# EAGLE library part USBSRL (library MouseLib)
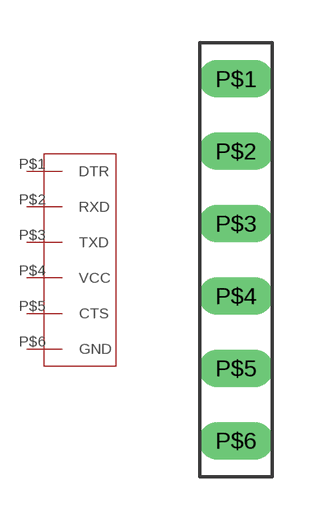
[diagram p11: symbol with the pads of 6PINS; footprint 6PINS]

Designator prefix -

## USBSRL  [6PINS]
P$1  DTR
P$2  RXD
P$3  TXD
P$4  VCC
P$5  CTS
P$6  GND

## Footprint 6PINS (pad centres in mm)
drill 0.8 pad 1.143 long: P$1 -2.54,10.16; P$2 -2.54,7.62; P$3 -2.54,5.08; P$4 -2.54,2.54; P$5 -2.54,0; P$6 -2.54,-2.54